# EAGLE library part SN65LVDS4RSER (library SN65LVDS4RSER)
500 Mbps LVDS Single High Speed Transceiver Source: Datasheet <http://www.ti.com/lit/gpn/SN65LVDS4>
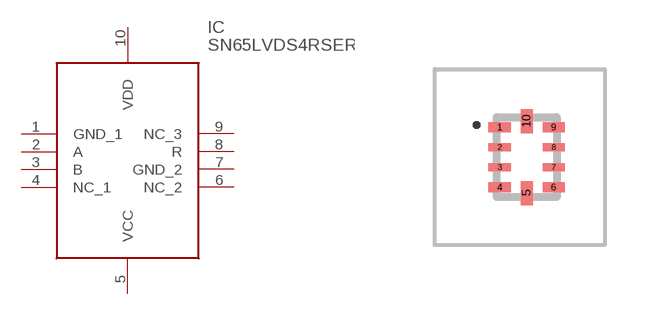
[diagram p0: symbol with the pads of SN65LVDS4RSER; footprint SN65LVDS4RSER]

Designator prefix IC

## SN65LVDS4RSER (Description: 500 Mbps LVDS Single High Speed Transceiver; Height: 0.6mm; Manufacturer_Name: Texas Instruments; Manufacturer_Part_Number: SN65LVDS4RSER; Mouser_Part_Number: 595-SN65LVDS4RSER; Mouser_Price-Stock: https://www.mouser.co.uk/ProductDetail/Texas-Instruments/SN65LVDS4RSER?qs=kO%2FAGeZgcF8xT3dfx7gx%252Bg%3D%3D)  [SN65LVDS4RSER]
1  GND_1
2  A
3  B
4  NC_1
5  VCC
6  NC_2
7  GND_2
8  R
9  NC_3
10  VDD

## Footprint SN65LVDS4RSER (pad centres in mm)
SN65LVDS4RSER-4
smd 0.55 x 0.25: 1 -0.675,0.75; 4 -0.675,-0.75; 6 0.675,-0.75; 9 0.675,0.75
smd 0.55 x 0.2: 2 -0.675,0.25; 3 -0.675,-0.25; 7 0.675,-0.25; 8 0.675,0.25
smd 0.3 x 0.6: 5 0,-0.9; 10 0,0.9